# EAGLE library part NCP380 (library jseng)
ON-Semiconductor NCP380 Power distribution switch
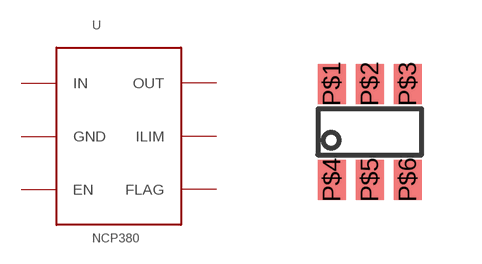
[diagram p0: symbol with the pads of TSOP-5; footprint TSOP-5]

Designator prefix -

## NCP380  [TSOP-5]
P$1  OUT
P$2  ILIM
P$3  FLAG
P$4  IN
P$5  GND
P$6  EN

## Footprint TSOP-5 (pad centres in mm)
smd 0.7 x 1: P$1 0.35,2.9; P$2 1.3,2.9; P$3 2.25,2.9; P$4 0.35,0.5; P$5 1.3,0.5; P$6 2.25,0.5